# EAGLE library part STF202 (library Traficon)
USB Filter with ESD Protection
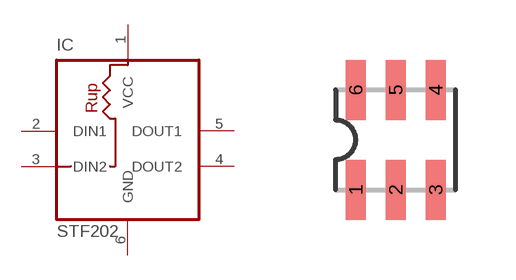
[diagram p98: symbol with the pads of TSOP6; footprint TSOP6]

Designator prefix IC

## STF202  [TSOP6]
1  VCC
2  DIN1
3  DIN2
4  DOUT2
5  DOUT1
6  GND

## Footprint TSOP6 (pad centres in mm)
smd 0.5 x 1.5: 1 -2,-1.5; 2 -1,-1.5; 3 0,-1.5; 4 0,1; 5 -1,1; 6 -2,1